# EAGLE library part ACT2813 (library we-power)
Active Semi ACT2813 Charger (1.1MHz) for Li-Ion/LiPo with Boost Converter (0.55MHz, 2.4A)
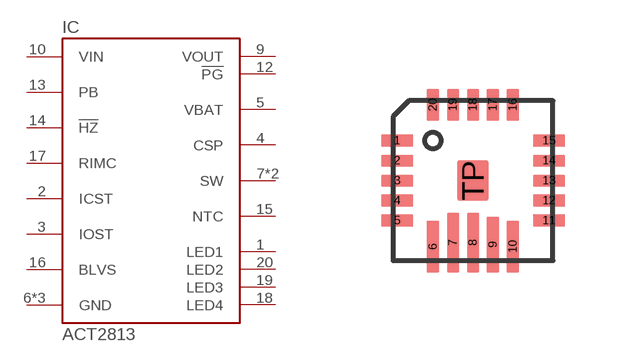
[diagram p1: symbol with the pads of FCQFN20-PAD; footprint FCQFN20-PAD]

Designator prefix IC

## ACT2813-QY-T  [FCQFN20-PAD]
1  LED1  out
2  ICST  pas
3  IOST  pas
4  CSP  pas
5  VBAT  pwr
6  GND  pwr
7  SW  pas
8  SW  pas
9  VOUT  pwr
10  VIN  pwr
11  GND  pwr
12  !PG  out
13  PB  in
14  !HZ  in
15  NTC  pas
16  BLVS  pas
17  RIMC  pas
18  LED4  out
19  LED3  out
20  LED2  out
TP  GND  pwr

## Footprint FCQFN20-PAD (pad centres in mm)
smd 0.8 x 0.3: 1 -1.9,1; 2 -1.9,0.5; 3 -1.9,0; 4 -1.9,-0.5; 5 -1.9,-1; 11 1.9,-1; 12 1.9,-0.5; 13 1.9,0; 14 1.9,0.5; 15 1.9,1
smd 0.3 x 1.3: 6 -1,-1.65; 10 1,-1.65
smd 0.3 x 1.5: 7 -0.5,-1.55; 8 0,-1.55
smd 0.3 x 1.4: 9 0.5,-1.6
smd 0.3 x 0.8: 16 1,1.9; 17 0.5,1.9; 18 0,1.9; 19 -0.5,1.9; 20 -1,1.9
smd 0.8 x 1: TP 0,0